# Altium footprint library JMPKG.PcbLib: 337 footprints (part 11 of 22)
Each footprint in its own frame and in the unit in brackets; x right, y up, seen from the top. Pads: shape width x height; smd on the part's side, far side on the other; paste and mask are expansions set on the pad; w line width, h text height; cw(c..) or ccw(c..) is an arc to the next point about the centre after c.
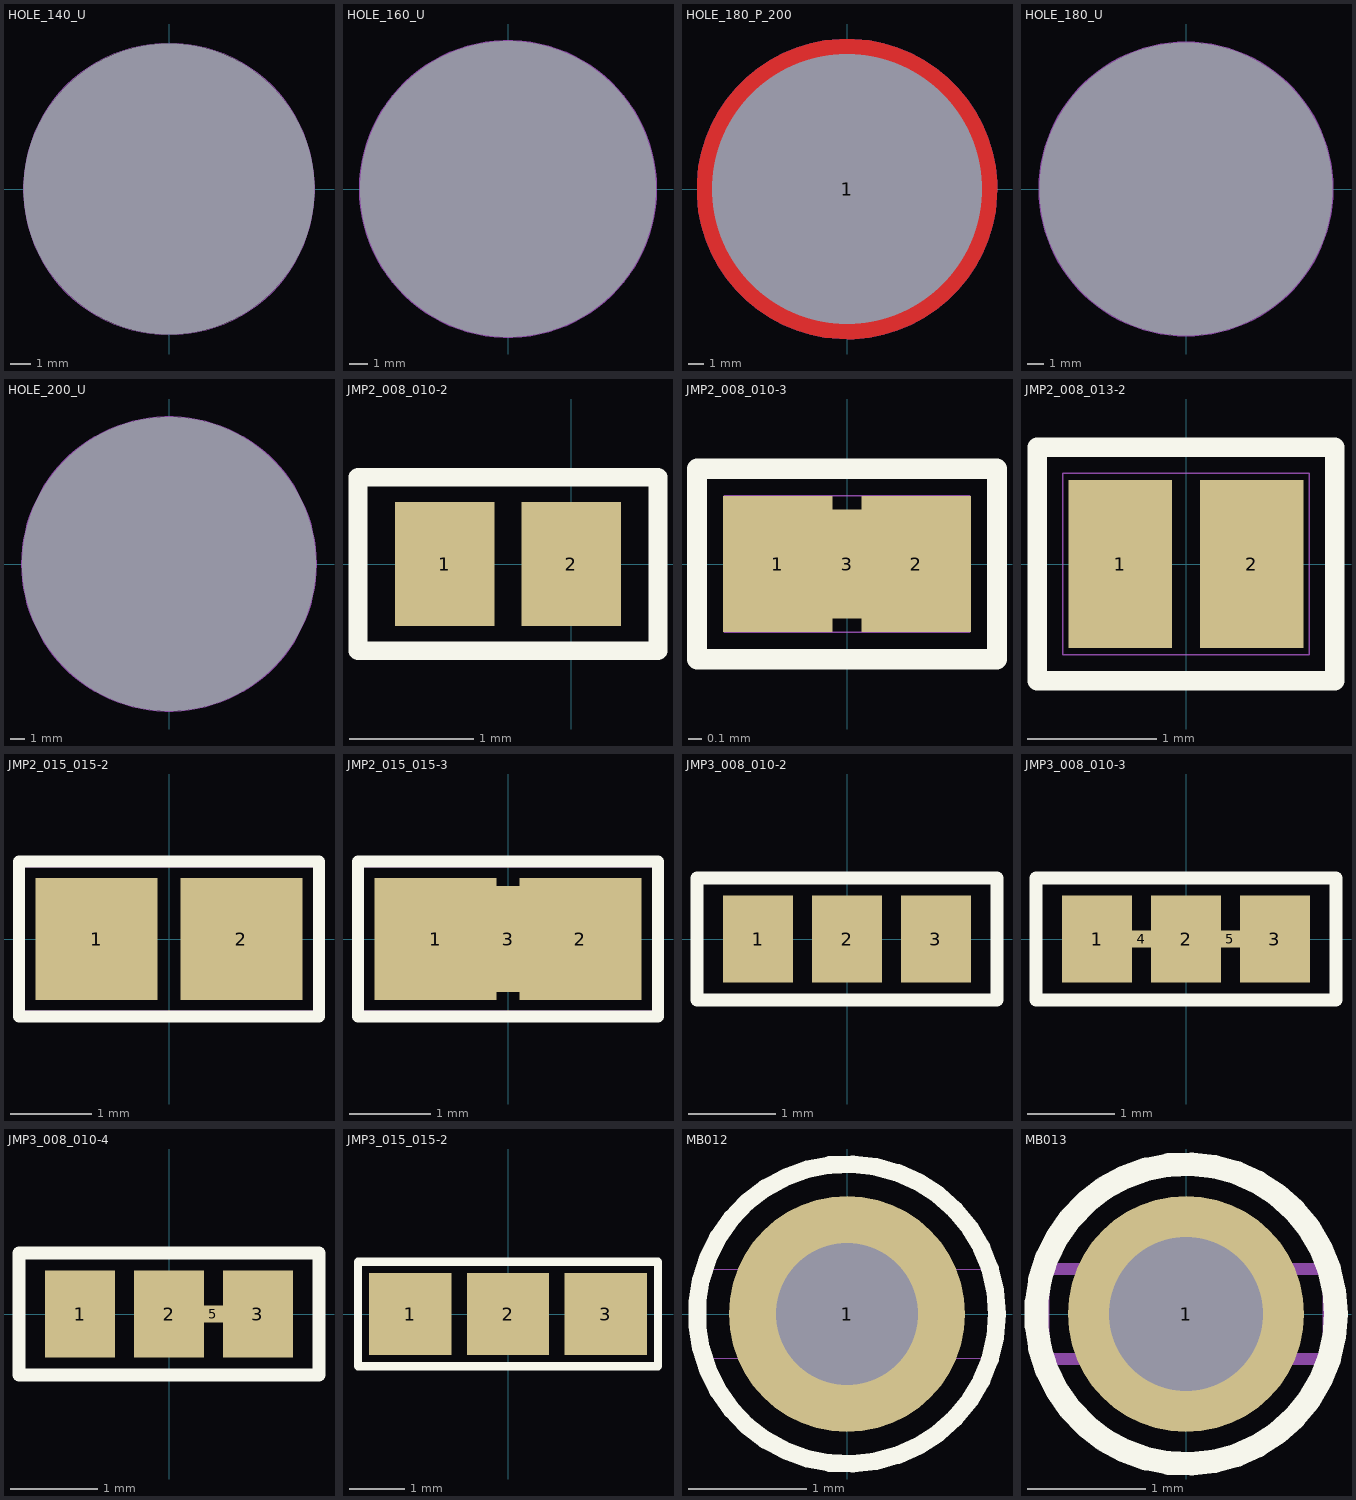
[diagram p10: the footprints below, top view; thin cyan lines are the x and y axes]

## HOLE_140_U [mm]
pads (1):
  round 0 hole 14 unplated: 1(0,0)
Top Solder:
  region: 7.206,0 7.206,0.354 7.137,1.059 6.999,1.753 6.793,2.431 6.522,3.085 6.188,3.709 5.795,4.298 5.346,4.845 4.845,5.346 4.298,5.795 3.709,6.188 3.085,6.522 2.431,6.793 1.753,6.999 1.059,7.137 0.354,7.206 0,7.206 -0.354,7.206 -1.059,7.137 -1.753,6.999 -2.431,6.793 -3.085,6.522 -3.709,6.188 -4.298,5.795 -4.845,5.346 -5.346,4.845 -5.795,4.298 -6.188,3.709 -6.522,3.085 -6.793,2.431 -6.999,1.753 -7.137,1.059 -7.206,0.354 -7.206,0 -7.206,-0.354 -7.137,-1.059 -6.999,-1.753 -6.793,-2.431 -6.522,-3.085 -6.188,-3.709 -5.795,-4.298 -5.346,-4.845 -4.845,-5.346 -4.298,-5.795 -3.709,-6.188 -3.085,-6.522 -2.431,-6.793 -1.753,-6.999 -1.059,-7.137 -0.354,-7.206 0,-7.206 0.354,-7.206 1.059,-7.137 1.753,-6.999 2.431,-6.793 3.085,-6.522 3.709,-6.188 4.298,-5.795 4.845,-5.346 5.346,-4.845 5.795,-4.298 6.188,-3.709 6.522,-3.085 6.793,-2.431 6.999,-1.753 7.137,-1.059 7.206,-0.354
Bottom Solder:
  region: 7.203,0 7.203,0.354 7.133,1.058 6.995,1.752 6.79,2.429 6.519,3.083 6.185,3.707 5.792,4.296 5.343,4.843 4.843,5.343 4.296,5.792 3.707,6.185 3.083,6.519 2.429,6.79 1.752,6.995 1.058,7.133 0.354,7.203 0,7.203 -0.354,7.203 -1.058,7.133 -1.752,6.995 -2.429,6.79 -3.083,6.519 -3.707,6.185 -4.296,5.792 -4.843,5.343 -5.343,4.843 -5.792,4.296 -6.185,3.707 -6.519,3.083 -6.79,2.429 -6.995,1.752 -7.133,1.058 -7.203,0.354 -7.203,0 -7.203,-0.354 -7.133,-1.058 -6.995,-1.752 -6.79,-2.429 -6.519,-3.083 -6.185,-3.707 -5.792,-4.296 -5.343,-4.843 -4.843,-5.343 -4.296,-5.792 -3.707,-6.185 -3.083,-6.519 -2.429,-6.79 -1.752,-6.995 -1.058,-7.133 -0.354,-7.203 0,-7.203 0.354,-7.203 1.058,-7.133 1.752,-6.995 2.429,-6.79 3.083,-6.519 3.707,-6.185 4.296,-5.792 4.843,-5.343 5.343,-4.843 5.792,-4.296 6.185,-3.707 6.519,-3.083 6.79,-2.429 6.995,-1.752 7.133,-1.058 7.203,-0.354
Mechanical 15:
  circle w0.01: c0,0 r7
Mechanical 16:
  circle w0.01: c0,0 r7

## HOLE_160_U [mm]
pads (1):
  round 0 hole 16 unplated: 1(0,0)
Top Solder:
  region: 8.1,0 8.1,0.398 8.022,1.19 7.867,1.971 7.636,2.732 7.331,3.467 6.956,4.169 6.514,4.831 6.009,5.446 5.446,6.009 4.831,6.514 4.169,6.956 3.467,7.331 2.732,7.636 1.971,7.867 1.19,8.022 0.398,8.1 0,8.1 -0.398,8.1 -1.19,8.022 -1.971,7.867 -2.732,7.636 -3.467,7.331 -4.169,6.956 -4.831,6.514 -5.446,6.009 -6.009,5.446 -6.514,4.831 -6.956,4.169 -7.331,3.467 -7.636,2.732 -7.867,1.971 -8.022,1.19 -8.1,0.398 -8.1,0 -8.1,-0.398 -8.022,-1.19 -7.867,-1.971 -7.636,-2.732 -7.331,-3.467 -6.956,-4.169 -6.514,-4.831 -6.009,-5.446 -5.446,-6.009 -4.831,-6.514 -4.169,-6.956 -3.467,-7.331 -2.732,-7.636 -1.971,-7.867 -1.19,-8.022 -0.398,-8.1 0,-8.1 0.398,-8.1 1.19,-8.022 1.971,-7.867 2.732,-7.636 3.467,-7.331 4.169,-6.956 4.831,-6.514 5.446,-6.009 6.009,-5.446 6.514,-4.831 6.956,-4.169 7.331,-3.467 7.636,-2.732 7.867,-1.971 8.022,-1.19 8.1,-0.398
Bottom Solder:
  region: 8.1,0 8.1,0.398 8.022,1.19 7.867,1.971 7.636,2.732 7.331,3.467 6.956,4.169 6.514,4.831 6.009,5.446 5.446,6.009 4.831,6.514 4.169,6.956 3.467,7.331 2.732,7.636 1.971,7.867 1.19,8.022 0.398,8.1 0,8.1 -0.398,8.1 -1.19,8.022 -1.971,7.867 -2.732,7.636 -3.467,7.331 -4.169,6.956 -4.831,6.514 -5.446,6.009 -6.009,5.446 -6.514,4.831 -6.956,4.169 -7.331,3.467 -7.636,2.732 -7.867,1.971 -8.022,1.19 -8.1,0.398 -8.1,0 -8.1,-0.398 -8.022,-1.19 -7.867,-1.971 -7.636,-2.732 -7.331,-3.467 -6.956,-4.169 -6.514,-4.831 -6.009,-5.446 -5.446,-6.009 -4.831,-6.514 -4.169,-6.956 -3.467,-7.331 -2.732,-7.636 -1.971,-7.867 -1.19,-8.022 -0.398,-8.1 0,-8.1 0.398,-8.1 1.19,-8.022 1.971,-7.867 2.732,-7.636 3.467,-7.331 4.169,-6.956 4.831,-6.514 5.446,-6.009 6.009,-5.446 6.514,-4.831 6.956,-4.169 7.331,-3.467 7.636,-2.732 7.867,-1.971 8.022,-1.19 8.1,-0.398
Mechanical 15:
  circle w0.1: c0,0 r8
  circle w0.1: c0,0 r8
Mechanical 16:
  circle w0.1: c0,0 r8
  circle w0.1: c0,0 r8

## HOLE_180_P_200 [mm]
pads (1):
  round 10 hole 18: 1(0,0)
L1-Top Layer:
  region: 10,0 10,0.491 9.904,1.469 9.712,2.433 9.427,3.373 9.051,4.281 8.588,5.147 8.042,5.964 7.418,6.724 6.724,7.418 5.964,8.042 5.147,8.588 4.281,9.051 3.373,9.427 2.433,9.712 1.469,9.904 0.491,10 0,10 -0.491,10 -1.469,9.904 -2.433,9.712 -3.373,9.427 -4.281,9.051 -5.147,8.588 -5.964,8.042 -6.724,7.418 -7.418,6.724 -8.042,5.964 -8.588,5.147 -9.051,4.281 -9.427,3.373 -9.712,2.433 -9.904,1.469 -10,0.491 -10,0 -10,-0.491 -9.904,-1.469 -9.712,-2.433 -9.427,-3.373 -9.051,-4.281 -8.588,-5.147 -8.042,-5.964 -7.418,-6.724 -6.724,-7.418 -5.964,-8.042 -5.147,-8.588 -4.281,-9.051 -3.373,-9.427 -2.433,-9.712 -1.469,-9.904 -0.491,-10 0,-10 0.491,-10 1.469,-9.904 2.433,-9.712 3.373,-9.427 4.281,-9.051 5.147,-8.588 5.964,-8.042 6.724,-7.418 7.418,-6.724 8.042,-5.964 8.588,-5.147 9.051,-4.281 9.427,-3.373 9.712,-2.433 9.904,-1.469 10,-0.491
L2-Botom Layer:
  region: 10,0 10,0.491 9.904,1.469 9.712,2.433 9.427,3.373 9.051,4.281 8.588,5.147 8.042,5.964 7.418,6.724 6.724,7.418 5.964,8.042 5.147,8.588 4.281,9.051 3.373,9.427 2.433,9.712 1.469,9.904 0.491,10 0,10 -0.491,10 -1.469,9.904 -2.433,9.712 -3.373,9.427 -4.281,9.051 -5.147,8.588 -5.964,8.042 -6.724,7.418 -7.418,6.724 -8.042,5.964 -8.588,5.147 -9.051,4.281 -9.427,3.373 -9.712,2.433 -9.904,1.469 -10,0.491 -10,0 -10,-0.491 -9.904,-1.469 -9.712,-2.433 -9.427,-3.373 -9.051,-4.281 -8.588,-5.147 -8.042,-5.964 -7.418,-6.724 -6.724,-7.418 -5.964,-8.042 -5.147,-8.588 -4.281,-9.051 -3.373,-9.427 -2.433,-9.712 -1.469,-9.904 -0.491,-10 0,-10 0.491,-10 1.469,-9.904 2.433,-9.712 3.373,-9.427 4.281,-9.051 5.147,-8.588 5.964,-8.042 6.724,-7.418 7.418,-6.724 8.042,-5.964 8.588,-5.147 9.051,-4.281 9.427,-3.373 9.712,-2.433 9.904,-1.469 10,-0.491
Top Solder:
  region: 9.2,0 9.2,0.452 9.111,1.352 8.935,2.238 8.673,3.103 8.327,3.938 7.901,4.735 7.398,5.487 6.825,6.186 6.186,6.825 5.487,7.398 4.735,7.901 3.938,8.327 3.103,8.673 2.238,8.935 1.352,9.111 0.452,9.2 0,9.2 -0.452,9.2 -1.352,9.111 -2.238,8.935 -3.103,8.673 -3.938,8.327 -4.735,7.901 -5.487,7.398 -6.186,6.825 -6.825,6.186 -7.398,5.487 -7.901,4.735 -8.327,3.938 -8.673,3.103 -8.935,2.238 -9.111,1.352 -9.2,0.452 -9.2,0 -9.2,-0.452 -9.111,-1.352 -8.935,-2.238 -8.673,-3.103 -8.327,-3.938 -7.901,-4.735 -7.398,-5.487 -6.825,-6.186 -6.186,-6.825 -5.487,-7.398 -4.735,-7.901 -3.938,-8.327 -3.103,-8.673 -2.238,-8.935 -1.352,-9.111 -0.452,-9.2 0,-9.2 0.452,-9.2 1.352,-9.111 2.238,-8.935 3.103,-8.673 3.938,-8.327 4.735,-7.901 5.487,-7.398 6.186,-6.825 6.825,-6.186 7.398,-5.487 7.901,-4.735 8.327,-3.938 8.673,-3.103 8.935,-2.238 9.111,-1.352 9.2,-0.452
Bottom Solder:
  region: 9.2,0 9.2,0.452 9.111,1.352 8.935,2.238 8.673,3.103 8.327,3.938 7.901,4.735 7.398,5.487 6.825,6.186 6.186,6.825 5.487,7.398 4.735,7.901 3.938,8.327 3.103,8.673 2.238,8.935 1.352,9.111 0.452,9.2 0,9.2 -0.452,9.2 -1.352,9.111 -2.238,8.935 -3.103,8.673 -3.938,8.327 -4.735,7.901 -5.487,7.398 -6.186,6.825 -6.825,6.186 -7.398,5.487 -7.901,4.735 -8.327,3.938 -8.673,3.103 -8.935,2.238 -9.111,1.352 -9.2,0.452 -9.2,0 -9.2,-0.452 -9.111,-1.352 -8.935,-2.238 -8.673,-3.103 -8.327,-3.938 -7.901,-4.735 -7.398,-5.487 -6.825,-6.186 -6.186,-6.825 -5.487,-7.398 -4.735,-7.901 -3.938,-8.327 -3.103,-8.673 -2.238,-8.935 -1.352,-9.111 -0.452,-9.2 0,-9.2 0.452,-9.2 1.352,-9.111 2.238,-8.935 3.103,-8.673 3.938,-8.327 4.735,-7.901 5.487,-7.398 6.186,-6.825 6.825,-6.186 7.398,-5.487 7.901,-4.735 8.327,-3.938 8.673,-3.103 8.935,-2.238 9.111,-1.352 9.2,-0.452
Mechanical 15:
  circle w0.1: c0,0 r9
Mechanical 16:
  circle w0.1: c0,0 r9

## HOLE_180_U [mm]
pads (1):
  round 0 hole 18 unplated: 1(0,0)
Top Solder:
  region: 9.2,0 9.2,0.452 9.111,1.352 8.935,2.238 8.673,3.103 8.327,3.938 7.901,4.735 7.398,5.487 6.825,6.186 6.186,6.825 5.487,7.398 4.735,7.901 3.938,8.327 3.103,8.673 2.238,8.935 1.352,9.111 0.452,9.2 0,9.2 -0.452,9.2 -1.352,9.111 -2.238,8.935 -3.103,8.673 -3.938,8.327 -4.735,7.901 -5.487,7.398 -6.186,6.825 -6.825,6.186 -7.398,5.487 -7.901,4.735 -8.327,3.938 -8.673,3.103 -8.935,2.238 -9.111,1.352 -9.2,0.452 -9.2,0 -9.2,-0.452 -9.111,-1.352 -8.935,-2.238 -8.673,-3.103 -8.327,-3.938 -7.901,-4.735 -7.398,-5.487 -6.825,-6.186 -6.186,-6.825 -5.487,-7.398 -4.735,-7.901 -3.938,-8.327 -3.103,-8.673 -2.238,-8.935 -1.352,-9.111 -0.452,-9.2 0,-9.2 0.452,-9.2 1.352,-9.111 2.238,-8.935 3.103,-8.673 3.938,-8.327 4.735,-7.901 5.487,-7.398 6.186,-6.825 6.825,-6.186 7.398,-5.487 7.901,-4.735 8.327,-3.938 8.673,-3.103 8.935,-2.238 9.111,-1.352 9.2,-0.452
Bottom Solder:
  region: 9.2,0 9.2,0.452 9.111,1.352 8.935,2.238 8.673,3.103 8.327,3.938 7.901,4.735 7.398,5.487 6.825,6.186 6.186,6.825 5.487,7.398 4.735,7.901 3.938,8.327 3.103,8.673 2.238,8.935 1.352,9.111 0.452,9.2 0,9.2 -0.452,9.2 -1.352,9.111 -2.238,8.935 -3.103,8.673 -3.938,8.327 -4.735,7.901 -5.487,7.398 -6.186,6.825 -6.825,6.186 -7.398,5.487 -7.901,4.735 -8.327,3.938 -8.673,3.103 -8.935,2.238 -9.111,1.352 -9.2,0.452 -9.2,0 -9.2,-0.452 -9.111,-1.352 -8.935,-2.238 -8.673,-3.103 -8.327,-3.938 -7.901,-4.735 -7.398,-5.487 -6.825,-6.186 -6.186,-6.825 -5.487,-7.398 -4.735,-7.901 -3.938,-8.327 -3.103,-8.673 -2.238,-8.935 -1.352,-9.111 -0.452,-9.2 0,-9.2 0.452,-9.2 1.352,-9.111 2.238,-8.935 3.103,-8.673 3.938,-8.327 4.735,-7.901 5.487,-7.398 6.186,-6.825 6.825,-6.186 7.398,-5.487 7.901,-4.735 8.327,-3.938 8.673,-3.103 8.935,-2.238 9.111,-1.352 9.2,-0.452
Mechanical 15:
  circle w0.1: c0,0 r9
Mechanical 16:
  circle w0.1: c0,0 r9

## HOLE_200_U [mm]
pads (1):
  round 0 hole 20 unplated: 1(0,0)
Top Solder:
  region: 10.2,0 10.2,0.501 10.102,1.498 9.906,2.481 9.615,3.44 9.232,4.366 8.759,5.25 8.203,6.083 7.567,6.858 6.858,7.567 6.083,8.203 5.25,8.759 4.366,9.232 3.44,9.615 2.481,9.906 1.498,10.102 0.501,10.2 0,10.2 -0.501,10.2 -1.498,10.102 -2.481,9.906 -3.44,9.615 -4.366,9.232 -5.25,8.759 -6.083,8.203 -6.858,7.567 -7.567,6.858 -8.203,6.083 -8.759,5.25 -9.232,4.366 -9.615,3.44 -9.906,2.481 -10.102,1.498 -10.2,0.501 -10.2,0 -10.2,-0.501 -10.102,-1.498 -9.906,-2.481 -9.615,-3.44 -9.232,-4.366 -8.759,-5.25 -8.203,-6.083 -7.567,-6.858 -6.858,-7.567 -6.083,-8.203 -5.25,-8.759 -4.366,-9.232 -3.44,-9.615 -2.481,-9.906 -1.498,-10.102 -0.501,-10.2 0,-10.2 0.501,-10.2 1.498,-10.102 2.481,-9.906 3.44,-9.615 4.366,-9.232 5.25,-8.759 6.083,-8.203 6.858,-7.567 7.567,-6.858 8.203,-6.083 8.759,-5.25 9.232,-4.366 9.615,-3.44 9.906,-2.481 10.102,-1.498 10.2,-0.501
Bottom Solder:
  region: 10.2,0 10.2,0.501 10.102,1.498 9.906,2.481 9.615,3.44 9.232,4.366 8.759,5.25 8.203,6.083 7.567,6.858 6.858,7.567 6.083,8.203 5.25,8.759 4.366,9.232 3.44,9.615 2.481,9.906 1.498,10.102 0.501,10.2 0,10.2 -0.501,10.2 -1.498,10.102 -2.481,9.906 -3.44,9.615 -4.366,9.232 -5.25,8.759 -6.083,8.203 -6.858,7.567 -7.567,6.858 -8.203,6.083 -8.759,5.25 -9.232,4.366 -9.615,3.44 -9.906,2.481 -10.102,1.498 -10.2,0.501 -10.2,0 -10.2,-0.501 -10.102,-1.498 -9.906,-2.481 -9.615,-3.44 -9.232,-4.366 -8.759,-5.25 -8.203,-6.083 -7.567,-6.858 -6.858,-7.567 -6.083,-8.203 -5.25,-8.759 -4.366,-9.232 -3.44,-9.615 -2.481,-9.906 -1.498,-10.102 -0.501,-10.2 0,-10.2 0.501,-10.2 1.498,-10.102 2.481,-9.906 3.44,-9.615 4.366,-9.232 5.25,-8.759 6.083,-8.203 6.858,-7.567 7.567,-6.858 8.203,-6.083 8.759,-5.25 9.232,-4.366 9.615,-3.44 9.906,-2.481 10.102,-1.498 10.2,-0.501
Mechanical 15:
  circle w0.1: c0,0 r10
Mechanical 16:
  circle w0.1: c0,0 r10

## JMP2_008_010-2 [mm]
pads (2):
  rect 0.8x1 smd mask+0.05: 1(-1.016,0) 2(0,0)
Top Overlay:
  lines w0.15: -1.714,-0.699 0.699,-0.699 0.699,0.699 -1.714,0.699 -1.714,-0.699
Mechanical 15:
  lines w0.01: -1.651,-0.635 0.635,-0.635 0.635,0.635 -1.651,0.635 -1.651,-0.635
Multi-Layer:
  text "Value" at -0.88,-0.622 h0.6
Mechanical 20:
  lines w0.01: -1.714,-0.699 0.699,-0.699 0.699,0.699 -1.714,0.699 -1.714,-0.699

## JMP2_008_010-3 [mm]
pads (3):
  rect 0.8x1 smd mask+0.05: 1(-0.508,0) 2(0.508,0)
  rect 0.3x0.8 smd mask+0.05: 3(0,0)
Top Overlay:
  lines w0.15: -1.1,-0.7 1.1,-0.7 1.1,0.7 -1.1,0.7 -1.1,-0.7
Mechanical 15:
  lines w0.01: -0.9,-0.5 0.9,-0.5 0.9,0.5 -0.9,0.5 -0.9,-0.5
Multi-Layer:
  text "Value" at -0.372,-0.622 h0.6
Mechanical 20:
  lines w0.01: -1.1,-0.7 1.1,-0.7 1.1,0.7 -1.1,0.7 -1.1,-0.7

## JMP2_008_013-2 [mm]
pads (2):
  rect 0.8x1.3 smd mask+0.05: 1(-0.508,0) 2(0.508,0)
Top Overlay:
  lines w0.15: -1.15,-0.9 1.15,-0.9 1.15,0.9 -1.15,0.9 -1.15,-0.9
Mechanical 15:
  lines w0.01: -0.95,-0.7 0.95,-0.7 0.95,0.7 -0.95,0.7 -0.95,-0.7
Multi-Layer:
  text "Value" at -1.007,-0.609 h0.6
Mechanical 20:
  lines w0.01: -1.15,-0.9 1.15,-0.9 1.15,0.9 -1.15,0.9 -1.15,-0.9

## JMP2_015_015-2 [mm]
pads (3):
  rrect0% 1.5x1.5 smd mask+0.05: 1(-0.889,0) 2(0.889,0)
  round 0 all layers, no hole: 3(0,0)
Top Overlay:
  lines w0.15: -1.841,-0.953 1.841,-0.953 1.841,0.953 -1.841,0.953 -1.841,-0.953
Mechanical 15:
  lines w0.01: -1.778,-0.889 1.778,-0.889 1.778,0.889 -1.778,0.889 -1.778,-0.889
Multi-Layer:
  text "Value" at -0.988,-0.692 h0.6
  text "Value" at -0.943,-0.622 h0.6
Mechanical 20:
  lines w0.01: -1.841,-0.953 1.841,-0.953 1.841,0.953 -1.841,0.953 -1.841,-0.953

## JMP2_015_015-3 [mm]
pads (3):
  rrect0% 1.5x1.5 smd mask+0.05: 1(-0.889,0) 2(0.889,0)
  rect 0.4x1.3 smd mask+0.05: 3(0,0)
Top Overlay:
  lines w0.15: -1.841,-0.953 1.841,-0.953 1.841,0.953 -1.841,0.953 -1.841,-0.953
Mechanical 15:
  lines w0.01: -1.778,-0.889 1.778,-0.889 1.778,0.889 -1.778,0.889 -1.778,-0.889
Multi-Layer:
  text "Value" at -0.988,-0.692 h0.6
  text "Value" at -0.943,-0.622 h0.6
Mechanical 20:
  lines w0.01: -1.841,-0.953 1.841,-0.953 1.841,0.953 -1.841,0.953 -1.841,-0.953

## JMP3_008_010-2 [mm]
pads (5):
  rect 0.8x1 smd mask+0.05: 1(-1.016,0) 2(0,0) 3(1.016,0)
  round 0 all layers, no hole: 4(0,0) 5(0,0)
Top Overlay:
  lines w0.15: -1.714,-0.699 1.714,-0.699 1.714,0.699 -1.714,0.699 -1.714,-0.699
Mechanical 15:
  lines w0.01: -1.651,-0.635 1.651,-0.635 1.651,0.635 -1.651,0.635 -1.651,-0.635
Multi-Layer:
  text "Value" at -0.988,-0.692 h0.6
Mechanical 20:
  lines w0.01: -1.714,-0.699 1.714,-0.699 1.714,0.699 -1.714,0.699 -1.714,-0.699

## JMP3_008_010-3 [mm]
pads (5):
  rect 0.8x1 smd mask+0.05: 1(-1.016,0) 2(0,0) 3(1.016,0)
  rect 0.4x0.2 smd mask+0.05: 4(-0.508,0) 5(0.508,0)
Top Overlay:
  lines w0.15: -1.714,-0.699 1.714,-0.699 1.714,0.699 -1.714,0.699 -1.714,-0.699
Mechanical 15:
  lines w0.01: -1.651,-0.635 1.651,-0.635 1.651,0.635 -1.651,0.635 -1.651,-0.635
Mechanical 20:
  lines w0.01: -1.714,-0.699 1.714,-0.699 1.714,0.699 -1.714,0.699 -1.714,-0.699

## JMP3_008_010-4 [mm]
pads (5):
  rect 0.8x1 smd mask+0.05: 1(-1.016,0) 2(0,0) 3(1.016,0)
  round 0 all layers, no hole: 4(0,0)
  rect 0.4x0.2 smd mask+0.05: 5(0.508,0)
Top Overlay:
  lines w0.15: -1.714,-0.699 1.714,-0.699 1.714,0.699 -1.714,0.699 -1.714,-0.699
Mechanical 15:
  lines w0.01: -1.651,-0.635 1.651,-0.635 1.651,0.635 -1.651,0.635 -1.651,-0.635
Multi-Layer:
  text "Value" at -0.88,-0.622 h0.6
Mechanical 20:
  lines w0.01: -1.714,-0.699 1.714,-0.699 1.714,0.699 -1.714,0.699 -1.714,-0.699

## JMP3_015_015-2 [mm]
pads (5):
  rrect0% 1.5x1.5 smd mask+0.05: 1(-1.778,0) 2(0,0) 3(1.778,0)
  round 0 all layers, no hole: 4(0,0) 5(0,0)
Top Overlay:
  lines w0.15: -2.73,-0.953 2.73,-0.953 2.73,0.953 -2.73,0.953 -2.73,-0.953
Mechanical 15:
  lines w0.01: -2.667,-0.889 2.667,-0.889 2.667,0.889 -2.667,0.889 -2.667,-0.889
Multi-Layer:
  text "Value" at -1.877,-0.692 h0.6
  text "Value" at -1.832,-0.622 h0.6
Mechanical 20:
  lines w0.01: -2.73,-0.953 2.73,-0.953 2.73,0.953 -2.73,0.953 -2.73,-0.953

## MB012 [mm]
pads (1):
  round 2 hole 1.2 mask+0.05: 1(0,0)
Top Overlay:
  circle w0.15: c0,0 r1.27
Mechanical 15:
  lines w0.01: -1.206,-0.381 1.206,-0.381 1.206,0.381 -1.206,0.381 -1.206,-0.381
Multi-Layer:
  text "Value" at -0.988,-1.067 h0.6
  text "Value" at -0.988,-1.01 h0.6
Mechanical 20:
  circle w0.01: c0,0 r1.27

## MB013 [mm]
pads (1):
  round 2 hole 1.3 mask+0.05: 1(0,0)
Top Overlay:
  circle w0.2: c0,0 r1.27
Mechanical 15:
  lines w0.1: -1.206,-0.381 1.206,-0.381 1.206,0.381 -1.206,0.381 -1.206,-0.381
Multi-Layer:
  text "Value" at -1.362,-1.25 h0.75
Mechanical 20:
  circle w0.1: c0,0 r1.27